# EAGLE library part ATLAS_EZO_PH (library AtlasScientific)
Atlas Scientific EZO Circuit
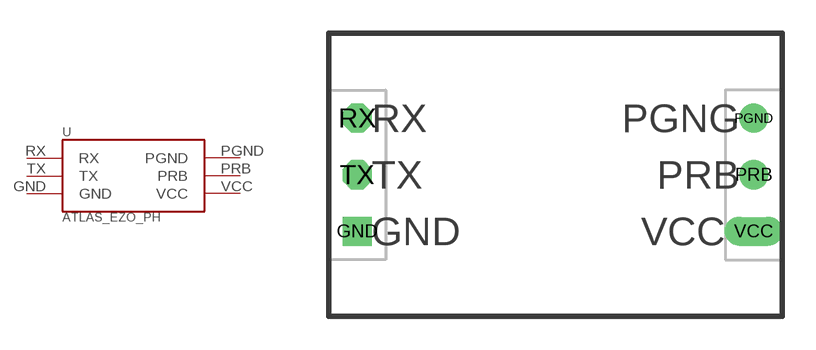
[diagram p1: symbol with the pads of ATLAS_EZO; footprint ATLAS_EZO]

Designator prefix -

## ATLAS_EZO_PH  [ATLAS_EZO]
GND  GND  pwr
PGND  PGND
PRB  PRB
RX  RX
TX  TX
VCC  VCC  pwr

## Footprint ATLAS_EZO (pad centres in mm)
Atlas Scientific EZO Package
drill 0.8 square: GND -8.89,-2.54
drill 0.8: PGND 8.89,2.54; PRB 8.89,0
drill 0.8 octagon: RX -8.89,2.54; TX -8.89,0
drill 0.8 long: VCC 8.89,-2.54